# EAGLE library part ANALOGDEVICES-ADXL345 (library FaBo-Axis)
ANALOGDEVICES ADXL345(3axis)
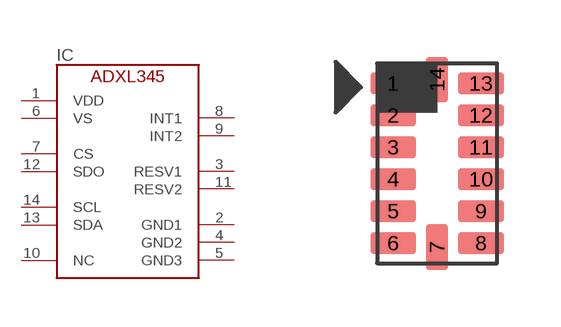
[diagram p1: symbol with the pads of ANALOGDEVICES-ADXL345; footprint ANALOGDEVICES-ADXL345]

Designator prefix IC

## ANALOGDEVICES-ADXL345  [ANALOGDEVICES-ADXL345]
1  VDD
2  GND1
3  RESV1
4  GND2
5  GND3
6  VS
7  CS
8  INT1
9  INT2
10  NC
11  RESV2
12  SDO
13  SDA
14  SCL

## Footprint ANALOGDEVICES-ADXL345 (pad centres in mm)
smd 1.145 x 0.55: 1 -1.097,2; 2 -1.097,1.2; 3 -1.097,0.4; 4 -1.097,-0.4; 5 -1.097,-1.2; 6 -1.097,-2; 8 1.097,-2; 9 1.097,-1.2; 10 1.097,-0.4; 11 1.097,0.4; 12 1.097,1.2; 13 1.097,2
smd 0.55 x 1.145: 7 0,-2.098; 14 0,2.098